# Altium footprint library Own_lib.PcbLib: 62 footprints (part 1 of 4)
Each footprint in its own frame and in the unit in brackets; x right, y up, seen from the top. Pads: shape width x height; smd on the part's side, far side on the other; paste and mask are expansions set on the pad; w line width, h text height; cw(c..) or ccw(c..) is an arc to the next point about the centre after c.
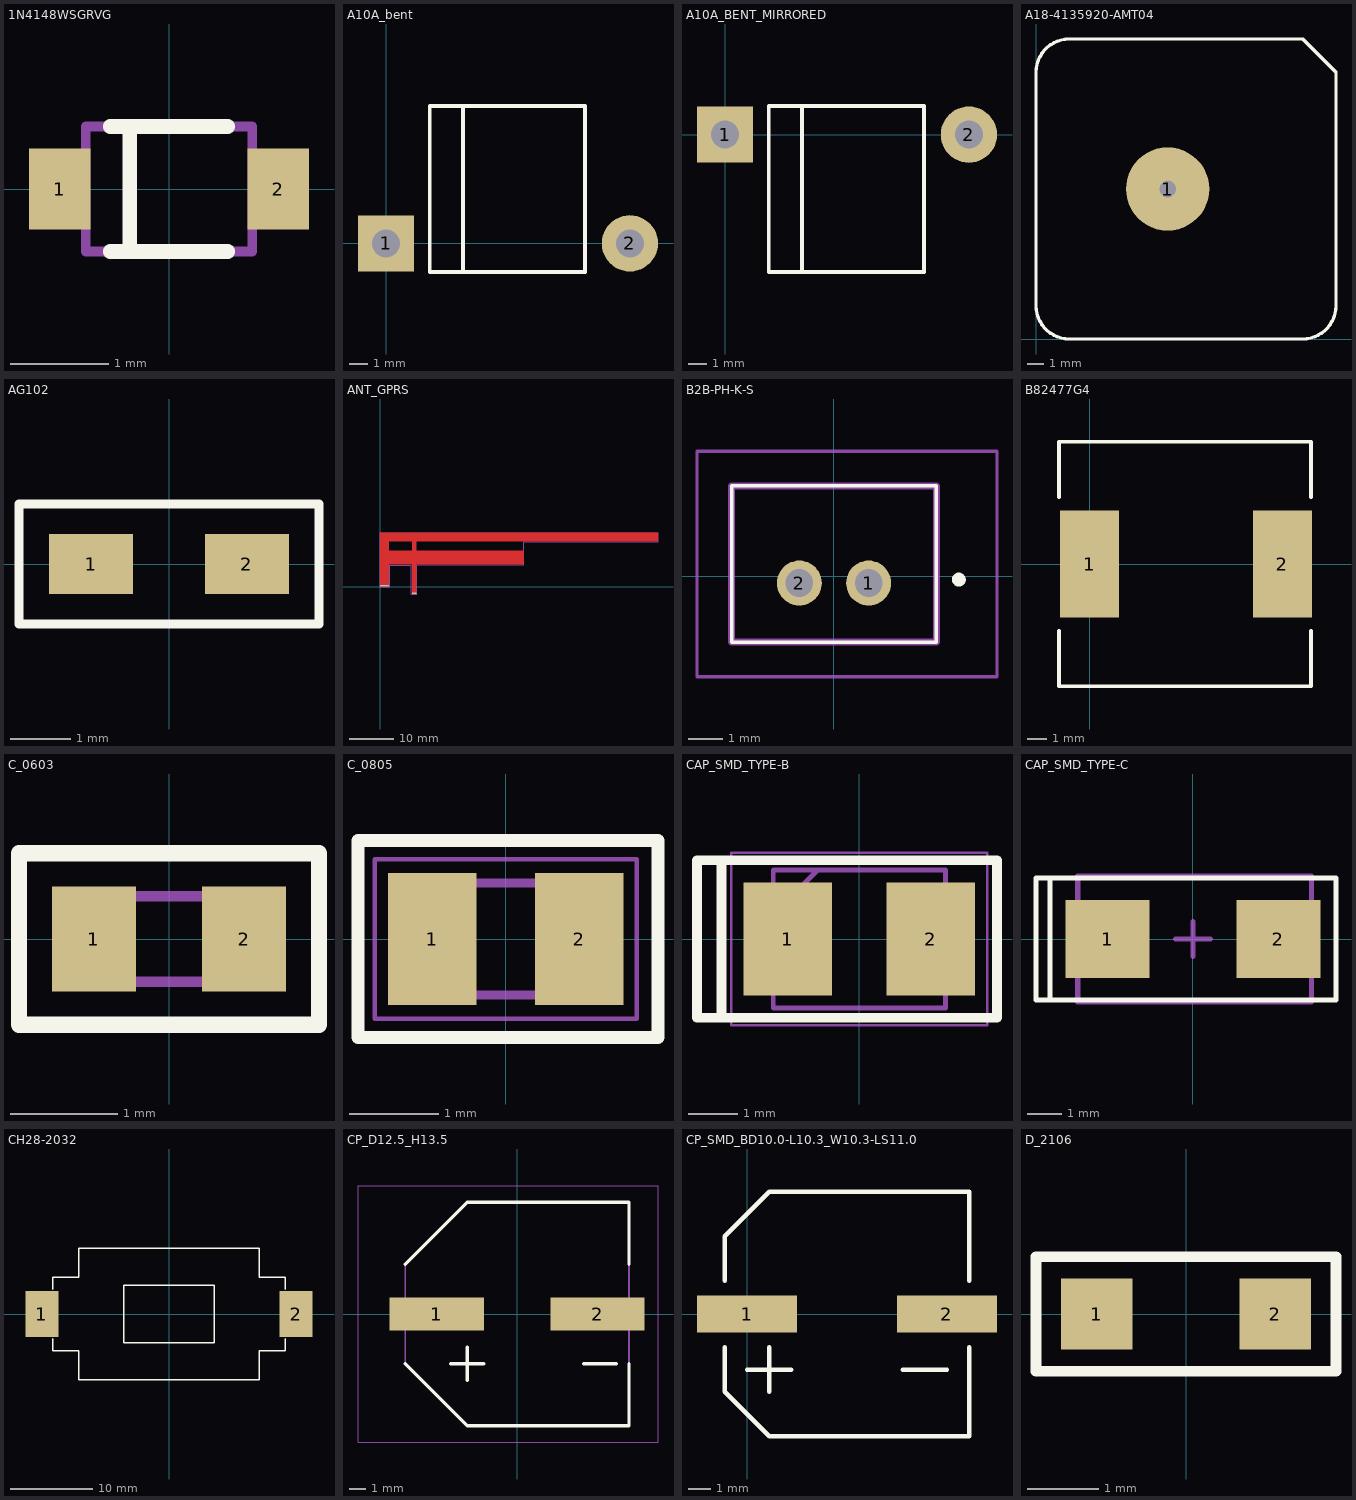
[diagram p0: the footprints below, top view; thin cyan lines are the x and y axes]

## 1N4148WSGRVG [mm]
pads (2):
  rect 0.63x0.83 smd: 1(-1.115,0) 2(1.115,0)
Top Overlay:
  lines w0.15: -0.6,-0.638 0.6,-0.638 ; -0.6,0.638 0.6,0.638 ; -0.4,-0.638 -0.4,0.638
Mechanical 13:
  lines w0.1: -0.85,-0.638 0.85,-0.638 0.85,0.638 -0.85,0.638 -0.85,-0.638
3D body "1N4148WS-GRVG.stp": height 1.2, standoff 0, extent -1.367,-0.638 1.367,0.638

## A10A_bent [mm]
pads (2):
  rect 3x3 hole 1.5: 1(0,0)
  round 3 hole 1.5: 2(13,0)
Top Overlay:
  lines w0.2: 4.1,-1.525 4.1,7.325 ; 2.325,-1.525 10.6,-1.525 10.6,7.325 2.325,7.325 2.325,-1.525
3D body: height 8.9, standoff 0.1, extent 2.363,-1.525 10.563,7.275
3D body: height 5.15, standoff 3.65, extent -0.675,2.15 2.325,3.65
3D body: height 5.15, standoff 3.65, extent 10.2,2.15 13.7,3.65
3D body: height 4.4, standoff 0, extent -0.75,-0.75 0.75,0.75
3D body: height 4.4, standoff 0, extent 12.25,-0.75 13.75,0.75
3D body: height 5.15, standoff 3.65, extent -0.65,-0.73 0.85,3.67
3D body: height 5.15, standoff 3.65, extent 12.25,-0.73 13.75,3.67

## A10A_BENT_MIRRORED [mm]
pads (2):
  rect 3x3 hole 1.5: 1(0,0)
  round 3 hole 1.5: 2(13,0)
Top Overlay:
  lines w0.2: 4.1,-7.325 4.1,1.525 ; 2.325,-7.325 2.325,1.525 10.6,1.525 10.6,-7.325 2.325,-7.325
3D body: height 5.15, standoff 3.65, extent 12.25,-3.67 13.75,0.73
3D body: height 5.15, standoff 3.65, extent -0.65,-3.67 0.85,0.73
3D body: height 4.4, standoff 0, extent 12.25,-0.75 13.75,0.75
3D body: height 4.4, standoff 0, extent -0.75,-0.75 0.75,0.75
3D body: height 5.15, standoff 3.65, extent 10.2,-3.65 13.7,-2.15
3D body: height 5.15, standoff 3.65, extent -0.675,-3.65 2.325,-2.15
3D body: height 8.9, standoff 0.1, extent 2.363,-7.275 10.563,1.525

## A18-4135920-AMT04 [mm]
pads (1):
  round 5 / inner round 1 / far side round 5 hole 1: 1(7.9,9)
Top Overlay:
  lines w0.2: 0,2 ccw(c2,2) 2,0 16,0 ccw(c16,2) 18,2 18,16 16,18 2,18 ccw(c2,16) 0,16 0,2
3D body: height 4, standoff -0.1, extent 2,16 16,18
3D body: height 4, standoff -0.1, extent 1.9,0 16.1,1.9
3D body: height 4, standoff 0, extent 16,16 18,18
3D body: height 4, standoff 0, extent 0,14 4,18
3D body: height 4, standoff 0, extent 0,1.8 18,16
3D body: height 4, standoff 0, extent 0,0 4,4
3D body: height 4, standoff 0, extent 14,0 18,4

## AG102 [mm]
pads (2):
  rect 1.4x1 smd: 1(-1.3,0) 2(1.3,0)
Top Overlay:
  lines w0.15: -2.5,-1 2.5,-1 2.5,1 -2.5,1 -2.5,0 -2.5,-1
3D body: height 0.85, standoff 0, extent -1,-0.625 1,0.625

## ANT_GPRS [mm]
pads (2):
  rect 1.016x0.3 smd paste+0 mask+0.102: 1(7.62,-1.5)
  rect 2.032x0.3 smd: 2(1.016,0.2)
Top Layer:
  rectangle: 0,10.033 62.103,12.065
  rectangle: 0,4.935 32.131,8.019
  region: 2.032,0.2 2.032,12.065 0,12.065 0,0.2
  region: 8.128,-1.5 8.128,12.065 7.112,12.065 7.112,-1.5
Top Courtyard:
  lines w0.1: 0,0 2.2,0 2.2,4.8 7,4.8 7,-1.7 8.2,-1.7 8.2,4.9 32.096,4.9 32.131,4.935 32.131,9.931 32.2,10 62.07,10 62.103,10.033 62.103,12.065 0,12.065 0,0

## B2B-PH-K-S [mm]
pads (2):
  round 1.3 hole 0.8: 1(1,-0.2) 2(-1,-0.2)
Top Overlay:
  lines w0.1: -2.95,-1.9 2.95,-1.9 2.95,2.6 -2.95,2.6 -2.95,-1.9
  lines w0.2: 3.6,-0.2 ccw(c3.6,-0.1) 3.6,0 ccw(c3.6,-0.1) 3.6,-0.2
Mechanical 13:
  lines w0.2: -2.95,-1.9 2.95,-1.9 2.95,2.6 -2.95,2.6 -2.95,-1.9
Mechanical 15:
  lines w0.1: -3.95,-2.9 4.7,-2.9 4.7,3.6 -3.95,3.6 -3.95,-2.9
3D body "B2B-PH-K-S__LF__SN_.stp": height 6.1, standoff -3.3, extent -2.95,-1.9 2.95,2.6

## B82477G4 [mm]
pads (2):
  rect 3.1x5.6 smd paste+0: 1(0,0) 2(10.1,0)
Top Overlay:
  lines w0.2: -1.6,-3.5 -1.6,-6.4 11.6,-6.4 11.6,-3.5 ; -1.6,3.5 -1.6,6.4 11.6,6.4 11.6,3.5
3D body: height 8, standoff -0.1, extent -1.4,-6.4 11.4,6.4

## C_0603 [mm]
pads (2):
  rect 0.78x0.98 smd: 1(-0.7,0) 2(0.7,0)
Top Overlay:
  lines w0.15: -1.4,-0.8 1.4,-0.8 1.4,0.8 -1.2,0.8 -1.4,0.8 -1.4,-0.8
Mechanical 13:
  lines w0.1: -0.8,-0.4 -0.8,0.4 0.8,0.4 0.8,-0.4 -0.8,-0.4
3D body "VJ0603A2R7CCPAJ.stp": height 0.97, standoff 0, extent -0.8,-0.4 0.8,0.4

## C_0805 [mm]
pads (2):
  rect 0.99x1.47 smd: 1(-0.82,0) 2(0.82,0)
Top Overlay:
  lines w0.15: -1.65,-1.1 -1.65,-0.95 -1.65,1.1 -1.5,1.1 1.7,1.1 1.7,-1.1 -1.65,-1.1
Mechanical 13:
  lines w0.1: -1,-0.625 1,-0.625 1,0.625 -1,0.625 -1,-0.625
Mechanical 15:
  lines w0.05: -1.465,-0.89 1.465,-0.89 1.465,0.89 -1.465,0.89 -1.465,-0.89
3D body "VJ0805A471JCAAJ.stp": height 1.45, standoff 0, extent -1,-0.625 1,0.625

## CAP_SMD_TYPE-B [mm]
pads (2):
  rect 1.8x2.3 smd: 1(-1.45,0) 2(1.45,0)
Top Overlay:
  lines w0.2: -2.8,-1.6 -3.3,-1.6 -3.3,1.6 -2.8,1.6 ; -2.8,-1.6 -2.8,1.6 ; -2.8,-1.6 2.8,-1.6 2.8,1.6 -2.8,1.6
Mechanical 13:
  lines w0.1: -1.75,0.5 -0.85,1.4 ; -1.75,-1.4 -1.75,1.4 1.75,1.4 1.75,-1.4 -1.75,-1.4
Mechanical 15:
  lines w0.05: -2.6,-1.75 -2.6,1.75 2.6,1.75 2.6,-1.75 -2.6,-1.75
3D body "TMCMB1A107MTRF.stp": height 2.1, standoff 0, extent -1.75,-1.4 1.75,1.4

## CAP_SMD_TYPE-C [mm]
pads (2):
  rect 2.4x2.25 smd: 1(-2.45,0) 2(2.45,0)
Top Overlay:
  lines w0.15: -4.1,-1.75 -4.5,-1.75 -4.5,1.75 -4.1,1.75 ; -4.1,-1.75 -3.15,-1.75 3.15,-1.75 4.1,-1.75 4.1,1.75 3.15,1.75 -3.15,1.75 -4.1,1.75 ; -4.1,-1.75 -4.1,1.75
Top 3D Body:
  lines w0.15: -0.5,0 0.5,0 ; 0,-0.5 0,0.5 ; -3.3,-1.8 3.4,-1.8 3.4,1.8 -3.3,1.8 -3.3,-1.8
3D body "CAPMP6134X28N.step": height 2.8, standoff 0, extent -3.37,-1.75 3.37,1.75

## CH28-2032 [mm] "BT?"
pads (2):
  rect 4x5.6 smd paste+0: 1(-15.5,0) 2(15.5,0)
Top Overlay:
  lines w0.2: -14.2,-3 -14.2,-4.5 -11,-4.5 -11,-8 11,-8 11,-4.5 14.2,-4.5 14.2,-3 ; -14.2,3 -14.2,4.5 -11,4.5 -11,8 11,8 11,4.5 14.2,4.5 14.2,3 ; -5.5,-3.5 -5.5,3.5 5.5,3.5 5.5,-3.5 -5.5,-3.5
3D body: height 6, standoff 0, extent -10.94,-8 11,8
3D body: height 6, standoff 0, extent -14.2,-4.5 14.17,4.5

## CP_D12.5_H13.5 [mm]
pads (2):
  rect 5.7x2 smd: 1(-4.85,0) 2(4.85,0)
Top Overlay:
  lines w0.2: -6.75,-3 -3,-6.75 6.75,-6.75 6.75,-3 ; -6.75,3 -3,6.75 6.75,6.75 6.75,3 ; -4,-3 -2,-3 ; -3,-4 -3,-2 ; 4,-3 6,-3
Mechanical 13:
  lines w0.1: -6.75,3 -3,6.75 ; -6.75,3 -6.75,-3 -3,-6.75 6.75,-6.75 6.75,6.75 -3,6.75 ; -6.75,3 -3,6.75
Mechanical 15:
  lines w0.05: -9.6,-7.75 -9.6,7.75 8.5,7.75 8.5,-7.75 -9.6,-7.75
3D body "EEV-FK1K101Q.stp": height 0, standoff 0, extent 0,0 0,0
3D body: height 13.5, standoff 0, extent -6.25,-6.25 6.25,6.25

## CP_SMD_BD10.0-L10.3_W10.3-LS11.0 [mm]
pads (2):
  rect 4.5x1.65 smd: 1(0,0) 2(9,0)
Top Overlay:
  lines w0.2: -1,-1.5 -1,-3 -1,-3.5 ; -1,1.5 -1,3.5 ; 0,-2.5 2,-2.5 ; 1,-3.5 1,-1.5 ; 7,-2.5 9,-2.5 ; 10,-1.5 10,-5.5 1,-5.5 -1,-3.5 ; 10,1.5 10,5.5 1,5.5 -1,3.5 ; -1,-3.5 -1,-3.5 ; -1,3.5 -1,3.5
3D body: height 10.5, standoff 0, extent -0.5,-5 9.5,5

## D_2106 [mm]
pads (2):
  rect 1x1 smd paste+0 mask+0.102: 1(-1.25,0) 2(1.25,0)
Top Overlay:
  lines w0.15: -2.1,-0.8 -2.1,0.8 -1.8,0.8 2.1,0.8 2.1,-0.8 -2.1,-0.8
3D body: height 1, standoff 0, extent -1.05,-0.3 1.05,0.3